# Altium schematic symbol library Custom1.SchLib: 476 symbols (part 5 of 16)
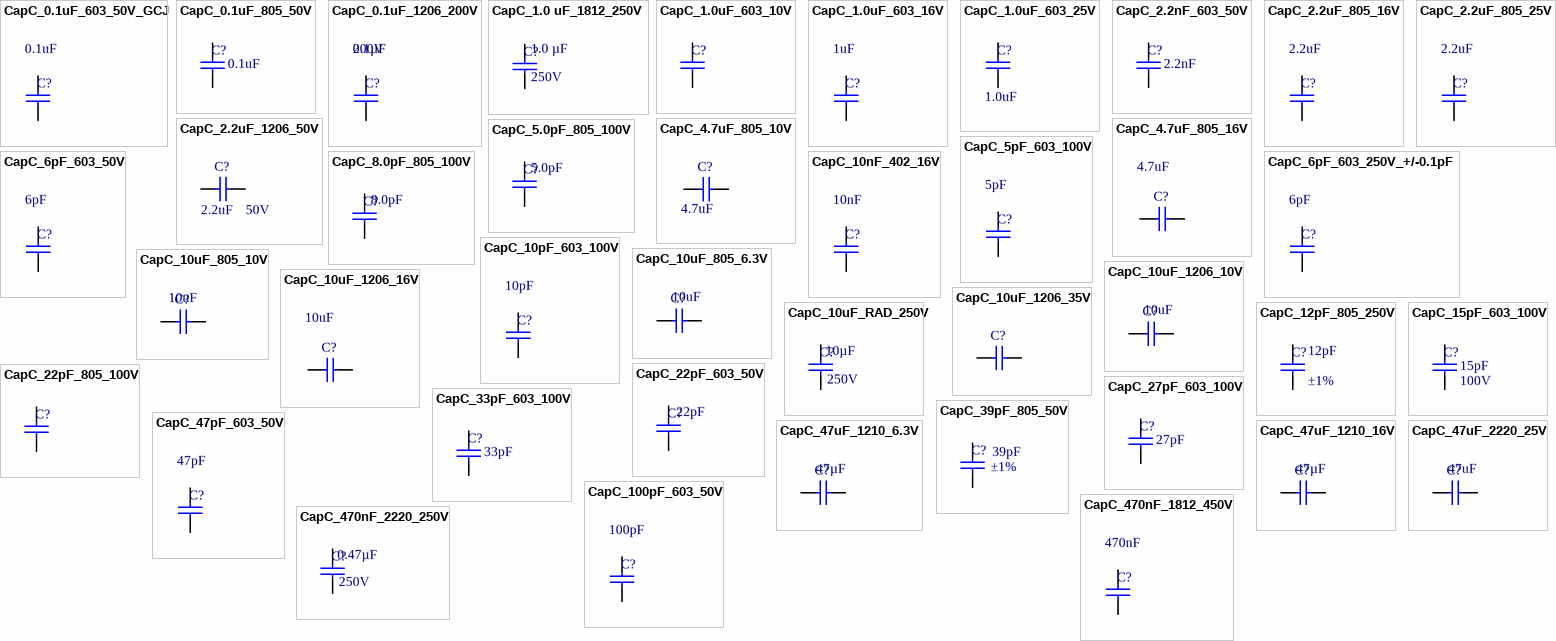
[diagram p29: symbols CapC_0.1uF_603_50V_GCJ to CapC_470nF_2220_250V]

## CapC_22pF_805_100V
designator C?, comment 22pF_805_100V  (value not drawn)
Capacitor
simulation model CAP (Capacitor)
signal-integrity model Cap
footprint CAPC_0805 (Chip Capacitor, Body 2.0x1.3mm, IPC Medium Density)
pins: 1, 2

## CapC_27pF_603_100V
designator C?, comment value 27pF  (hidden comment: 27pF_603_100V)
Capacitor; Manufacturer: AVX Corporation; Manufacturer Part Number: 06031A270FAT2A; Voltage - Rated: 100V; Tolerance: ±1%; Temperature Coefficient: C0G, NP0; Supplier 1: Digi-Key; Supplier Part Number 1: 478-3681-1-ND; RoHS: RoHS Compliant; Category: Capacitors; Stock: 13409; Pricing: 1=0.43, 10=0.378, 100=0.189, 250=0.1512, 500=0.1377, 1000=0.1242 (USD); Packaging: Cut Tape (CT); Capacitance: 27pF; Mounting Type: Surface Mount, MLCC; Operating Temperature: -55°C ~ 125°C; Applications: General Purpose; Ratings: -; Package / Case: 0603 (1608 Metric); Size / Dimension: 0.063" L x 0.032" W (1.60mm x 0.81mm); Height - Seated (Max): -; Thickness (Max): 0.035" (0.90mm); Lead Spacing: -; Features: -; Lead Style: -; ComponentLink1URL: http://www.avx.com/docs/Catalogs/ccog.pdf; ComponentLink1Description: http://www.avx.com/docs/Catalogs/ccog.pdf
simulation model CAP (Capacitor)
signal-integrity model Cap
footprint CAPC_0603 (Chip Capacitor, Body 1.6x0.8mm, IPC Medium Density)
pins: 1, 2

## CapC_33pF_603_100V
designator C?, comment value 33pF  (hidden comment: 33pF_603_100V)
Capacitor; Manufacturer: AVX Corporation; Manufacturer Part Number: 06031A330FAT2A; Tolerance: ±1%; Temperature Coefficient: C0G, NP0; Voltage - Rated: 100V; Supplier 1: Digi-Key; Supplier Part Number 1: 478-3688-1-ND; RoHS: RoHS Compliant; Category: Capacitors; Stock: 223846; Pricing: 1=0.43, 10=0.378, 100=0.189, 250=0.1512, 500=0.1377, 1000=0.1242 (USD); Packaging: Cut Tape (CT); Capacitance: 33pF; Mounting Type: Surface Mount, MLCC; Operating Temperature: -55°C ~ 125°C; Applications: General Purpose; Ratings: -; Package / Case: 0603 (1608 Metric); Size / Dimension: 0.063" L x 0.032" W (1.60mm x 0.81mm); Height - Seated (Max): -; Thickness (Max): 0.035" (0.90mm); Lead Spacing: -; Features: -; Lead Style: -; ComponentLink1URL: http://www.avx.com/docs/Catalogs/ccog.pdf; ComponentLink1Description: http://www.avx.com/docs/Catalogs/ccog.pdf
simulation model CAP (Capacitor)
signal-integrity model Cap
footprint CAPC_0603 (Chip Capacitor, Body 1.6x0.8mm, IPC Medium Density)
pins: 1, 2

## CapC_39pF_805_50V
designator C?, comment Tolerance: ±1%  Capacitance: 39pF  (hidden comment: 39pF_805_50V)
Capacitor; Manufacturer: American Technical Ceramics; Manufacturer Part Number: 600F390FT; Voltage - Rated: 250V; Temperature Coefficient: C0G, NP0; Supplier 1: Digi-Key; Supplier Part Number 1: 1284-1052-1-ND; RoHS: RoHS Compliant; Category: Capacitors; Stock: 7687; Pricing: 1=2.14, 10=1.775, 50=1.6444, 100=1.4877, 250=1.22672, 500=1.0962, 1000=0.9918 (USD); Packaging: Cut Tape (CT); Mounting Type: Surface Mount, MLCC; Operating Temperature: -55°C ~ 125°C; Applications: RF, Microwave, High Frequency; Ratings: -; Package / Case: 0805 (2012 Metric); Size / Dimension: 0.079" L x 0.049" W (2.00mm x 1.25mm); Height - Seated (Max): -; Thickness (Max): 0.051" (1.30mm); Lead Spacing: -; Features: High Q, Low Loss, Ultra Low ESR, High Voltage; Lead Style: -; ComponentLink1URL: http://www.atceramics.com/UserFiles/600f.pdf; ComponentLink1Description: http://www.atceramics.com/UserFiles/600f.pdf
simulation model CAP (Capacitor)
signal-integrity model Cap
footprint CAPC_0805 (Chip Capacitor, Body 2.0x1.3mm, IPC Medium Density)
pins: 1, 2

## CapC_47pF_603_50V
designator C?, comment Capacitance: 47pF  (hidden comment: 47pF_603_50V)
47pF ±5% 50V Ceramic Capacitor C0G, NP0 0603 (1608 Metric); Manufacturer: TDK; Manufacturer Part Number: CGA3E2C0G1H470J080AA; ComponentLink1Description: Supplier Link; ComponentLink1URL: https://www.digikey.com/products/en?keywords=445-5636-1-ND; ComponentLink2Description: Datasheet; ComponentLink2URL: https://product.tdk.com/info/en/documents/chara_sheet/CGA3E2C0G1H470J080AA.pdf; ComponentLink3Description: Catalog; ComponentLink3URL: https://product.tdk.com/info/en/catalog/datasheets/mlcc_automotive_general_en.pdf; Supplier 1: Digi-Key; Stock 1: 18370; Pricing 1: 1=0.19000, 10=0.13400, 100=0.06300, 500=0.04420, 1000=0.03659 (USD); RoHS: Yes; Mount: Surface Mount; Case/Package: 0603; Weight: 7.1E-05oz; Case Code (Imperial): 0603; Case Code (Metric): 1608; Min Operating Temperature: -55°C; Max Operating Temperature: 125°C; Tolerance: 5%; Packaging: Tape and Reel; Voltage Rating: 50V; Voltage Rating (DC): 50V; Package Quantity: 1; Dielectric: C0G; Termination: SMD/SMT; Composition: Ceramic; Length: 1.6mm; Height: 0.8mm; Width: 0.8mm; Thickness: 0.035inch; Depth: 0.8mm; Ratings: AEC-Q200; REACH SVHC: No SVHC; Lead Free: Lead Free; Supplier Part Number 1: 445-5636-1-ND
simulation model CAP (Capacitor)
signal-integrity model Cap
footprint CAPC_0603 (Chip Capacitor, Body 1.6x0.8mm, IPC Medium Density)
pins: 1, 2

## CapC_47uF_1210_6.3V
designator C?, comment Capacitance: 47µF  (hidden comment: 47uF_1210_6.3V)
Capacitor; Manufacturer: Murata Electronics North America; Manufacturer Part Number: GCJ32ER70J476KE01L; Tolerance: ±10%; Voltage - Rated: 6.3V; Temperature Coefficient: X7R; Supplier 1: Digi-Key; RoHS: RoHS Compliant; Category: Capacitors; Stock 1: 69; Pricing 1: 1=1.4, 10=1.172, 50=0.9474, 100=0.7479, 250=0.62324, 500=0.56092 (USD); Packaging: Cut Tape (CT); Mounting Type: Surface Mount, MLCC; Operating Temperature: -55°C ~ 125°C; Applications: Automotive, Boardflex Sensitive; Ratings: AEC-Q200; Package / Case: 1210 (3225 Metric); Size / Dimension: 0.126" L x 0.098" W (3.20mm x 2.50mm); Height - Seated (Max): -; Thickness (Max): 0.110" (2.80mm); Lead Spacing: -; Features: Soft Termination; Lead Style: -; ComponentLink1URL: http://www.murata.com/products/catalog/pdf/c03e.pdf; ComponentLink1Description: http://www.murata.com/products/catalog/pdf/c03e.pdf; Supplier Part Number 1: 490-10559-1-ND
simulation model CAP (Capacitor)
signal-integrity model Cap
footprint C1210 (Chip Capacitor; Body 3.2 x 2.5 mm (LxW typ))
pins: 1, 2

## CapC_47uF_1210_16V
designator C?, comment Capacitance: 47µF  (hidden comment: 47uF_1210_16V)
Capacitor; Manufacturer: Murata Electronics North America; Manufacturer Part Number: GRT32EC81C476KE13L; Tolerance: ±10%; Voltage - Rated: 16V; Temperature Coefficient: X6S; Supplier 1: Digi-Key; RoHS: RoHS Compliant; Category: Capacitors; Stock 1: 980; Pricing 1: 1=0.88, 10=0.838, 50=0.5, 100=0.4063, 250=0.33752, 500=0.30626 (USD); Packaging: Cut Tape (CT); Mounting Type: Surface Mount, MLCC; Operating Temperature: -55°C ~ 105°C; Applications: Automotive; Ratings: AEC-Q200; Package / Case: 1210 (3225 Metric); Size / Dimension: 0.126" L x 0.098" W (3.20mm x 2.50mm); Height - Seated (Max): -; Thickness (Max): 0.106" (2.70mm); Lead Spacing: -; Features: -; Lead Style: -; ComponentLink1URL: http://search.murata.co.jp/Ceramy/image/img/A01X/G101/ENG/GRT32EC81C476KE13-01.pdf; ComponentLink1Description: http://search.murata.co.jp/Ceramy/image/img/A01X/G101/ENG/GRT32EC81C476KE13-01.pdf; Supplier Part Number 1: 490-12494-1-ND
simulation model CAP (Capacitor)
signal-integrity model Cap
footprint C1210 (Chip Capacitor; Body 3.2 x 2.5 mm (LxW typ))
pins: 1, 2

## CapC_47uF_2220_25V
designator C?, comment value 47uF  (hidden comment: 47uF_2220_25V)
Capacitor; Manufacturer: Kemet; Manufacturer Part Number: C2220C476M3R2CAUTO7186; Capacitance: 47µF; Tolerance: ±20%; Voltage - Rated: 25V; Temperature Coefficient: X7R; Supplier 1: Digi-Key; RoHS: RoHS Compliant; Category: Capacitors; Stock 1: 278; Pricing 1: 1=5.71, 10=5.362, 25=5.0164, 50=4.93, 100=4.757 (USD); Packaging: Cut Tape (CT); Mounting Type: Surface Mount, MLCC; Operating Temperature: -55°C ~ 125°C; Applications: Automotive, Bypass, Decoupling, Boardflex Sensitive; Ratings: AEC-Q200; Package / Case: Stacked SMD, 2 J-Lead; Size / Dimension: 0.236" L x 0.197" W (6.00mm x 5.00mm); Height - Seated (Max): -; Thickness (Max): 0.217" (5.50mm); Lead Spacing: -; Features: Low ESL (Stacked); Lead Style: -; ComponentLink1URL: http://www.kemet.com/Lists/ProductCatalog/Attachments/259/KEM_C1021_X7R_KPS_AUTO_SMD.pdf; ComponentLink1Description: http://www.kemet.com/Lists/ProductCatalog/Attachments/259/KEM_C1021_X7R_KPS_AUTO_SMD.pdf; Supplier Part Number 1: 399-5801-1-ND
simulation model CAP (Capacitor)
signal-integrity model Cap
footprint C2220-J-LEAD (Stacked Chip Capacitor; Body 6.0 x 5.0 mm (LxW typ))
pins: 1, 2

## CapC_100pF_603_50V
designator C?, comment Capacitance: 100pF  (hidden comment: 100pF_603_50V)
Capacitor; Manufacturer: TDK Corporation; Manufacturer Part Number: CGJ3E2C0G1H101J080AA; Tolerance: ±5%; Voltage - Rated: 50V; Temperature Coefficient: C0G, NP0; Ratings: COTS; Supplier 1: Digi-Key; RoHS: RoHS Compliant; Category: Capacitors; Stock 1: 3733; Pricing 1: 1=0.24, 10=0.204, 100=0.102, 250=0.07652, 500=0.06758, 1000=0.05993 (USD); Packaging: Cut Tape (CT); Mounting Type: Surface Mount, MLCC; Operating Temperature: -55°C ~ 125°C; Applications: High Reliability; Package / Case: 0603 (1608 Metric); Size / Dimension: 0.063" L x 0.031" W (1.60mm x 0.80mm); Height - Seated (Max): -; Thickness (Max): 0.031" (0.80mm); Lead Spacing: -; Features: -; Lead Style: -; ComponentLink1URL: http://product.tdk.com/capacitor/mlcc/en/documents/mlcc_highreliability_general_en.pdf; ComponentLink1Description: http://product.tdk.com/capacitor/mlcc/en/documents/mlcc_highreliability_general_en.pdf; Supplier Part Number 1: 445-10545-1-ND
simulation model CAP (Capacitor)
signal-integrity model Cap
footprint CAPC_0603 (Chip Capacitor, Body 1.6x0.8mm, IPC Medium Density)
pins: 1, 2

## CapC_470nF_1812_450V
designator C?, comment Capacitance: 470nF  (hidden comment: 470nF_1812_450V)
Capacitor; Manufacturer: TDK; Manufacturer Part Number: CGA8N4X7T2W474M230KE; Tolerance: 20%; Voltage Rating: 450V; Dielectric: X7T; ComponentLink1Description: Datasheet; ComponentLink1URL: https://product.tdk.com/info/en/catalog/datasheets/mlcc_automotive_soft_en.pdf; ComponentLink2Description: Supplier Link; ComponentLink2URL: https://www.digikey.com/product-detail/en/tdk-corporation/CGA8N4X7T2W474M230KE/445-7993-1-ND/2782561; Supplier 1: Digi-Key; Stock 1: 3188; Pricing 1: 1 = 1.72000, 10 = 1.39200, 100 = 1.06260 (USD); RoHS: Yes; Mount: Surface Mount; Case/Package: 1812; Weight: 0.000952oz; Case Code (Imperial): 1812; Case Code (Metric): 4532; Min Operating Temperature: -55°C; Max Operating Temperature: 125°C; Packaging: Tape and Reel; Termination: SMD/SMT; Voltage Rating (DC): 450V; Package Quantity: 1; Features: Soft Termination; Length: 4.5mm; Height: 2.3mm; Width: 3.2mm; Thickness: 0.091inch; Depth: 3.2mm; Ratings: AEC-Q200; REACH SVHC: No SVHC; ComponentLink3URL: http://www.mouser.com/ds/2/400/lcc_commercial_soft_en-775842.pdf?src-supplier=Mouser; ComponentLink3Description: http://www.mouser.com/ds/2/400/lcc_commercial_soft_en-775842.pdf?src-supplier=Mouser; ComponentLink4URL: http://components.arrow.com/part/dataview/0323_06888689?src-supplier=Arrow+Europe; ComponentLink4Description: http://components.arrow.com/part/dataview/0323_06888689?src-supplier=Arrow+Europe; ComponentLink5URL: http://www.farnell.com/datasheets/2016103.pdf?src-supplier=Farnell; ComponentLink5Description: http://www.farnell.com/datasheets/2016103.pdf?src-supplier=Farnell; ComponentLink6URL: http://components.arrow.com/part/dataview/57435482S457154N1165?src-supplier=Arrow; ComponentLink6Description: http://components.arrow.com/part/dataview/57435482S457154N1165?src-supplier=Arrow; ComponentLink7URL: http://www.farnell.com/datasheets/1839935.pdf?src-supplier=Element14; ComponentLink7Description: http://www.farnell.com/datasheets/1839935.pdf?src-supplier=Element14; ComponentLink8URL: https://product.tdk.com/info/en/documents/chara_sheet/CGA8N4X7T2W474M230KE.pdf?src-supplier=Digi-Key; ComponentLink8Description: https://product.tdk.com/info/en/documents/chara_sheet/CGA8N4X7T2W474M230KE.pdf?src-supplier=Digi-Key; ComponentLink9URL: https://product.tdk.com/info/en/catalog/datasheets/mlcc_automotive_soft_en.pdf?src-supplier=Digi-Key; ComponentLink9Description: https://product.tdk.com/info/en/catalog/datasheets/mlcc_automotive_soft_en.pdf?src-supplier=Digi-Key; Supplier Part Number 1: 445-7993-1-ND
simulation model CAP (Capacitor)
signal-integrity model Cap
footprint 1812 (Chip Capacitor; Body 4.5 x 3.2 mm (LxW typ))
pins: 1, 2

## CapC_470nF_2220_250V
designator C?, comment Capacitance: 0.47µF  Voltage - Rated: 250V  (hidden comment: 470nF_2220_250V)
Capacitor; Manufacturer: Murata Electronics North America; Manufacturer Part Number: GCJ55DR72E474KXJ1L; Tolerance: ±10%; Temperature Coefficient: X7R; Supplier 1: Digi-Key; RoHS: RoHS Compliant; Category: Capacitors; Stock 1: 1591; Pricing 1: 1=2.23, 10=1.825, 50=1.6028, 100=1.2911, 250=1.06848, 500=0.95718 (USD); Packaging: Cut Tape (CT); Mounting Type: Surface Mount, MLCC; Operating Temperature: -55°C ~ 125°C; Applications: Automotive, Boardflex Sensitive; Ratings: AEC-Q200; Package / Case: 2220 (5750 Metric); Size / Dimension: 0.224" L x 0.197" W (5.70mm x 5.00mm); Height - Seated (Max): -; Thickness (Max): 0.079" (2.00mm); Lead Spacing: -; Features: Soft Termination; Lead Style: -; ComponentLink1URL: http://www.murata.com/products/catalog/pdf/c03e.pdf; ComponentLink1Description: http://www.murata.com/products/catalog/pdf/c03e.pdf; Supplier Part Number 1: 490-5605-1-ND
simulation model CAP (Capacitor)
signal-integrity model Cap
footprint 2220 (Chip Capacitor; Body 5.7 x 5.0 mm (LxW typ))
pins: 1, 2

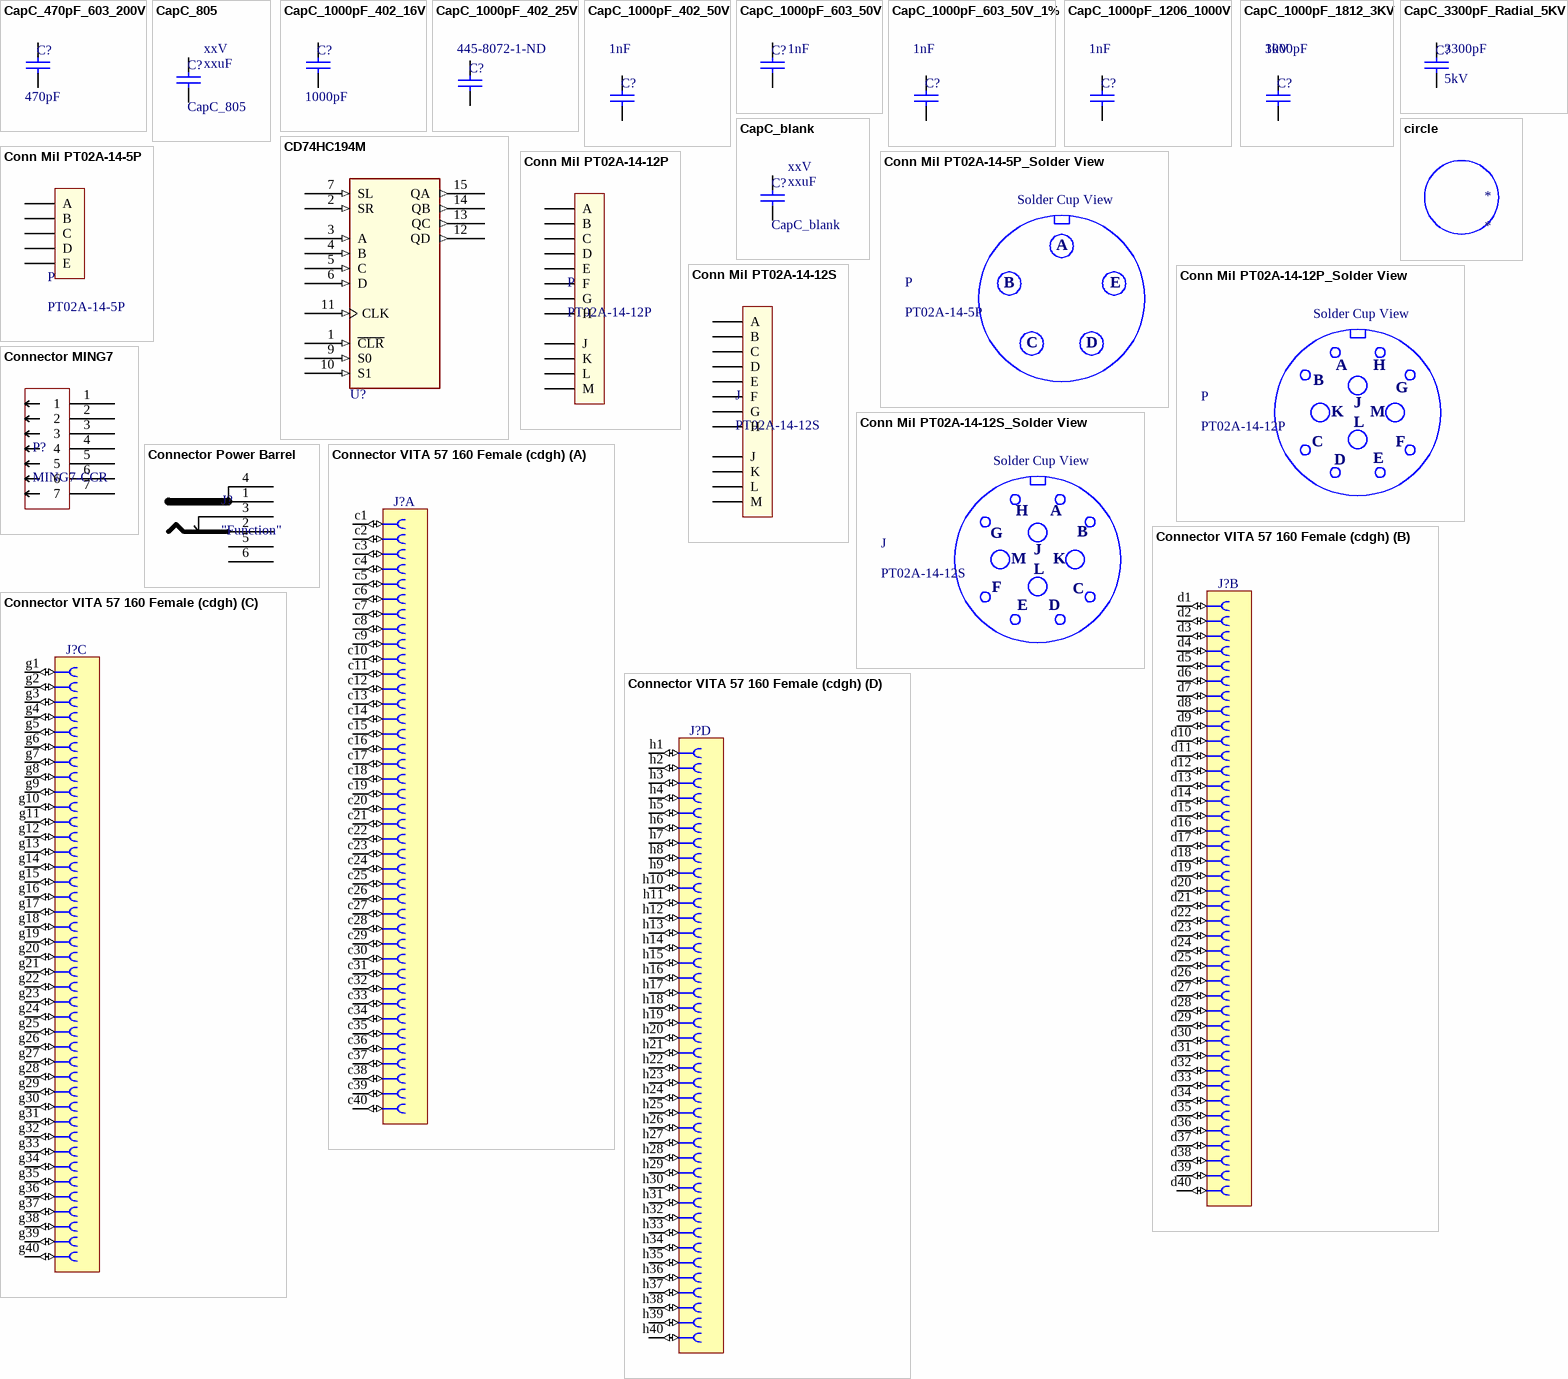
[diagram p12: symbols CapC_470pF_603_200V to Connector VITA 57 160 Female (cdgh)]

## CapC_470pF_603_200V
designator C?, comment Capacitance: 470pF  (hidden comment: 470pF_603_200V)
CAP CER 470PF 200V C0G 0603; Manufacturer: Yageo; Manufacturer Part Number: AC0603JRNPOYBN471; ComponentLink1Description: Datasheet; ComponentLink1URL: http://www.yageo.com/NewPortal/_en/search/productDocs.jsp?YageoPartNumber=AC0603JRNPOYBN471; ComponentLink2Description: Supplier Link; ComponentLink2URL: https://www.digikey.com/products/en?keywords=311-3098-1-ND; Supplier 1: Digi-Key; Stock 1: 19295; Pricing 1: 1 = 0.21000, 10 = 0.14600, 100 = 0.07400, 500 = 0.05062, 1000 = 0.04477 (USD); RoHS: No; ComponentLink3URL: http://www.yageo.com/NewPortal/_en/search/productDocs.jsp?YageoPartNumber=AC0603JRNPOYBN471&src-supplier=Digi-Key; ComponentLink3Description: http://www.yageo.com/NewPortal/_en/search/productDocs.jsp?YageoPartNumber=AC0603JRNPOYBN471&src-supplier=Digi-Key; Supplier Part Number 1: 311-3098-1-ND
simulation model CAP (Capacitor)
signal-integrity model Cap
footprint CAPC_0603 (Chip Capacitor, Body 1.6x0.8mm, IPC Medium Density)
pins: 1, 2

## CapC_805
designator C?  value xxuF  Voltage - Rated: xxV
Capacitor
footprint RAD-0.3 (Radial Cap, Thru-Hole; 2 Leads; 0.3 in Pin Spacing)
simulation model CAP (Capacitor)
signal-integrity model Cap
footprint 0603 (SMT; Body 1.6 x 0.8 mm (LxW typ))
footprint 0805 (SMT; Body 2.0 x 1.2 mm (LxW typ))
footprint 1206 (Chip Capacitor; Body 3.2 x 1.6 mm (LxW typ))
footprint 0402 (Chip Capacitor; Body 1.0 x 0.5 mm (LxW typ))
footprint CAPC_0805 (Chip Capacitor, Body 2.0x1.3mm, IPC Medium Density)
pins: 1, 2

## CapC_1000pF_402_16V
designator C?, comment Capacitance: 1000pF  (hidden comment: 1000pF_402_16V)
CAP CER 1000PF 16V X7R 0402; Manufacturer: Yageo; Manufacturer Part Number: AC0402KRX7R7BB102; ComponentLink1URL: http://www.yageo.com/documents/recent/UPY-AC_NP0X7R_16V-to-630V_12.pdf; ComponentLink1Description: Datasheet; Supplier 1: Digi-Key; Stock 1: 28640; Pricing 1: 1=0.10000, 10=0.05700, 100=0.02560, 500=0.01826, 1000=0.01435, 2500=0.01305, 5000=0.01200 (USD); RoHS: No; Supplier Part Number 1: 311-3058-1-ND; Parameter 1: *
simulation model CAP (Capacitor)
signal-integrity model Cap
footprint CAPC_0402 (Chip Capacitor, Body 1.0x0.5mm, IPC Medium Density)
pins: 1, 2

## CapC_1000pF_402_25V
designator C?, comment Supplier Part Number 1: 445-8072-1-ND  (hidden comment: 1000pF_402_25V)
Capacitor; Manufacturer: TDK; Manufacturer Part Number: CGJ2B2X7R1E102K050BA; Tolerance: 10%; Capacitance: 1nF; Voltage Rating (DC): 25V; Dielectric: X7R; Ratings: COTS; Supplier 1: Digi-Key; Stock 1: 218; Pricing 1: 1 = 0.17000, 10 = 0.12300, 100 = 0.05760, 500 = 0.04040, 1000 = 0.03345, 2500 = 0.03113, 5000 = 0.02848 (USD); RoHS: Yes; Mount: Surface Mount; Case/Package: 0402; Weight: 2.3E-05oz; Case Code (Imperial): 0402; Case Code (Metric): 1005; Min Operating Temperature: -55°C; Max Operating Temperature: 125°C; Packaging: Tape and Reel; Package Quantity: 1; Voltage Rating: 25V; Termination: SMD/SMT; Composition: Ceramic; Length: 1mm; Height: 0.5mm; Width: 0.5mm; Thickness: 0.022inch; Depth: 0.5mm; Radiation Hardening: No; ComponentLink1URL: https://datasheet.ciiva.com/15192/getdatasheetpartid-710822-15192447.pdf?src-supplier=Verical; ComponentLink1Description: https://datasheet.ciiva.com/15192/getdatasheetpartid-710822-15192447.pdf?src-supplier=Verical; ComponentLink2URL: https://datasheet.ciiva.com/24218/mlcc-highreliability-general-en-520187-24218552.pdf?src-supplier=Mouser; ComponentLink2Description: https://datasheet.ciiva.com/24218/mlcc-highreliability-general-en-520187-24218552.pdf?src-supplier=Mouser
simulation model CAP (Capacitor)
signal-integrity model Cap
footprint CAPC_0402 (Chip Capacitor, Body 1.0x0.5mm, IPC Medium Density)
pins: 1, 2

## CapC_1000pF_402_50V
designator C?, comment Capacitance: 1nF  (hidden comment: 1000pF_402_50V)
Capacitor; Manufacturer: KEMET; Manufacturer Part Number: C0402C102K5RACTU; Dielectric Material: Ceramic; Tolerance: 10%; Voltage Rating (DC): 50V; Dielectric: X7R; Dissipation Factor: 2.5%; Supplier 1: Digi-Key; Stock 1: 279243; Pricing 1: 1 = 0.10000, 10 = 0.02400, 100 = 0.01080, 500 = 0.00772, 1000 = 0.00607, 2500 = 0.00552, 5000 = 0.00508 (USD); RoHS: Yes; Mount: Surface Mount; Case/Package: 0402; Number of Pins: 2; Case Code (Metric): 1005; Case Code (Imperial): 0402; Min Operating Temperature: -55°C; Max Operating Temperature: 125°C; Packaging: Tape and Reel; Package Quantity: 1; Voltage Rating: 50V; Termination: SMD/SMT; Voltage: 50V; Length: 1mm; Height: 0.5mm; Width: 0.5mm; Depth: 0.5mm; Thickness: 0.022inch; Lead Pitch: 0.3mm; Radiation Hardening: No; REACH SVHC: No SVHC; Supplier Part Number 1: 399-1032-1-ND; ComponentLink1Description: Supplier Link; ComponentLink1URL: https://www.digikey.com/products/en?keywords=399-1032-1-ND; ComponentLink2Description: Datasheet; ComponentLink2URL: https://content.kemet.com/datasheets/KEM_C1002_X7R_SMD.pdf
simulation model CAP (Capacitor)
signal-integrity model Cap
footprint CAPC_0402 (Chip Capacitor, Body 1.0x0.5mm, IPC Medium Density)
pins: 1, 2

## CapC_1000pF_603_50V
designator C?, comment Capacitance: 1nF  (hidden comment: 1000pF_603_50V)
Capacitor; Manufacturer: Knowles Syfer; Manufacturer Part Number: 0603Y0500102KXT; Tolerance: 10%; Voltage Rating: 50V; Dielectric: X7R; Dissipation Factor: 2.5%; Supplier 1: Digi-Key; Stock 1: 7150; Pricing 1: 1 = 0.540000, 10 = 0.379000, 100 = 0.249600, 500 = 0.184900, 1000 = 0.157160 (USD); RoHS: Yes; Case/Package: 0603; Case Code (Imperial): 0603; Case Code (Metric): 1608; Min Operating Temperature: -55°C; Max Operating Temperature: 125°C; Packaging: Tape and Reel; Package Quantity: 4000; Voltage Rating (DC): 50V; Termination: SMD/SMT; Composition: Ceramic; Length: 1.6mm; Height: 0.8mm; Width: 0.8mm; Depth: 0.8mm; Supplier Part Number 1: 1608-1367-1-ND; ComponentLink1Description: Datasheet; ComponentLink1URL: https://www.knowlescapacitors.com/getattachment/2dbfc8bc-e2b3-4b4d-afb1-43b011b9ebe0/High-Std-Voltage.aspx; ComponentLink2Description: Supplier Link; ComponentLink2URL: https://www.digikey.com/product-detail/en/knowles-syfer/0603Y0500102KXT/1608-1367-1-ND/7644469
simulation model CAP (Capacitor)
signal-integrity model Cap
footprint CAPC_0603 (Chip Capacitor, Body 1.6x0.8mm, IPC Medium Density)
pins: 1, 2

## CapC_1000pF_603_50V_1%
designator C?, comment Capacitance: 1nF  (hidden comment: 1000pF_603_50V)
Capacitor; Manufacturer: Murata; Manufacturer Part Number: GRM1885C1H102FA01D; Material: Ceramic; Voltage Rating: 50V; Tolerance: 1%; Dielectric: C0G; Temperature Coefficient: 30ppm/°C; ComponentLink1Description: Datasheet; ComponentLink1URL: https://www.murata.com/~/media/webrenewal/support/library/catalog/products/capacitor/mlcc/c02e.ashx?la=en-us; ComponentLink2Description: Supplier Link; ComponentLink2URL: https://www.digikey.com/products/en?keywords=490-6376-1-ND; Supplier 1: Digi-Key; Stock 1: 143198; Pricing 1: 1=0.19000, 10=0.13300, 100=0.06260, 500=0.04386, 1000=0.03631 (USD); RoHS: Yes; Mount: Surface Mount; Case/Package: 0603; Number of Pins: 2; Case Code (Metric): 1608; Case Code (Imperial): 0603; Min Operating Temperature: -55°C; Max Operating Temperature: 125°C; Packaging: Tape and Reel; Package Quantity: 4000; Termination: SMD/SMT; Voltage: 50V; Voltage Rating (DC): 50V; Length: 1.6mm; Height: 0.8mm; Width: 0.031inch; Thickness: 0.035inch; Depth: 0.8mm; Radiation Hardening: No; REACH SVHC: No SVHC; Lead Free: Lead Free; ComponentLink3URL: https://datasheet.ciiva.com/6072/1747444-6072454.pdf?src-supplier=Farnell; ComponentLink3Description: https://datasheet.ciiva.com/6072/1747444-6072454.pdf?src-supplier=Farnell; ComponentLink4URL: https://datasheet.ciiva.com/7828/1747444-7828892.pdf?src-supplier=Element14; ComponentLink4Description: https://datasheet.ciiva.com/7828/1747444-7828892.pdf?src-supplier=Element14; ComponentLink5URL: https://datasheet.ciiva.com/11621/c02e-11621692.pdf?src-supplier=Avnet; ComponentLink5Description: https://datasheet.ciiva.com/11621/c02e-11621692.pdf?src-supplier=Avnet; ComponentLink6URL: https://datasheet.ciiva.com/16624/c02e-16624140.pdf?src-supplier=Avnet+Europe; ComponentLink6Description: https://datasheet.ciiva.com/16624/c02e-16624140.pdf?src-supplier=Avnet+Europe; ComponentLink7URL: https://datasheet.ciiva.com/22698/1747444-22698428.pdf?src-supplier=Element14; ComponentLink7Description: https://datasheet.ciiva.com/22698/1747444-22698428.pdf?src-supplier=Element14; ComponentLink8URL: https://datasheet.ciiva.com/5416/c02e-5416637.pdf?src-supplier=Mouser; ComponentLink8Description: https://datasheet.ciiva.com/5416/c02e-5416637.pdf?src-supplier=Mouser; ComponentLink9URL: https://datasheet.ciiva.com/6270/partnumbering-e-01-6270573.pdf?src-supplier=Digi-Key; ComponentLink9Description: https://datasheet.ciiva.com/6270/partnumbering-e-01-6270573.pdf?src-supplier=Digi-Key; ComponentLink10URL: https://datasheet.ciiva.com/6270/partnumbering-e-01-6270574.pdf?src-supplier=Digi-Key; ComponentLink10Description: https://datasheet.ciiva.com/6270/partnumbering-e-01-6270574.pdf?src-supplier=Digi-Key; ComponentLink11URL: https://datasheet.ciiva.com/6270/partnumbering-e-01-6270575.pdf?src-supplier=Digi-Key; ComponentLink11Description: https://datasheet.ciiva.com/6270/partnumbering-e-01-6270575.pdf?src-supplier=Digi-Key; ComponentLink12URL: https://datasheet.ciiva.com/16426/l0005e-16426367.pdf?src-supplier=Future+Electronics; ComponentLink12Description: https://datasheet.ciiva.com/16426/l0005e-16426367.pdf?src-supplier=Future+Electronics; Supplier Part Number 1: 490-6376-1-ND
simulation model CAP (Capacitor)
signal-integrity model Cap
footprint CAPC_0603 (Chip Capacitor, Body 1.6x0.8mm, IPC Medium Density)
pins: 1, 2

## CapC_1000pF_1206_1000V
designator C?, comment Capacitance: 1nF  (hidden comment: 1000pF_1206_1000V)
Capacitor; Manufacturer: KEMET; Manufacturer Part Number: C1206X102KDRACAUTO; Dielectric Material: Ceramic; Voltage Rating (DC): 1kV; Dielectric: X7R; Tolerance: 10%; ComponentLink1Description: Supplier Link; ComponentLink1URL: https://www.digikey.com/products/en?keywords=399-16729-1-ND; ComponentLink2Description: Data Sheet; ComponentLink2URL: https://api.kemet.com/component-edge/download/datasheet/C1206X102KDRACAUTO.pdf; Supplier 1: Digi-Key; Stock 1: 2753; Pricing 1: 1 = 0.85000, 10 = 0.62600, 100 = 0.42910, 500 = 0.33972, 1000 = 0.28608 (USD); RoHS: No; Case/Package: 1206; ComponentLink3URL: https://api.kemet.com/component-edge/download/datasheet/C1206X102KDRACAUTO.pdf?src-supplier=Digi-Key; ComponentLink3Description: https://api.kemet.com/component-edge/download/datasheet/C1206X102KDRACAUTO.pdf?src-supplier=Digi-Key; ComponentLink4URL: https://api.kemet.com/component-edge/download/specsheet/C1206X102KDRACAUTO.pdf?src-supplier=Digi-Key; ComponentLink4Description: https://api.kemet.com/component-edge/download/specsheet/C1206X102KDRACAUTO.pdf?src-supplier=Digi-Key; Supplier Part Number 1: 399-16729-1-ND
simulation model CAP (Capacitor)
signal-integrity model Cap
footprint CAPC_1206 (Chip Capacitor, Body 3.2x1.6mm, IPC Medium Density)
pins: 1, 2

## CapC_1000pF_1812_3KV
designator C?, comment Voltage Rating: 3kV  Capacitance: 1000pF  (hidden comment: 1000pF_1812_3KV)
Capacitor; Manufacturer: Kyocera AVX; Manufacturer Part Number: 1812HC102KAZ1A; Tolerance: 10%; Dielectric: X7R; ComponentLink1Description: Datasheet; ComponentLink1URL: http://datasheets.avx.com/HV-FlexitermMLCC.pdf; Supplier 1: Digi-Key; Stock 1: 10398; Pricing 1: 1 = 1.61000, 10 = 1.27000, 100 = 0.95220, 500 = 0.71944 (USD); RoHS: Yes; Mount: Surface Mount; Case/Package: 1812; Number of Pins: 2; Case Code (Metric): 4532; Case Code (Imperial): 1812; Min Operating Temperature: -55°C; Max Operating Temperature: 125°C; Package Quantity: 1000; Packaging: Tape and Reel; Voltage Rating (DC): 3kV; Termination: SMD/SMT; Features: Soft Termination; Length: 4.5mm; Height: 2.54mm; Width: 0.126inch; Thickness: 0.1inch; Depth: 3.2mm; REACH SVHC: No SVHC; Lead Free: Contains Lead; Supplier Part Number 1: 478-4607-1-ND
simulation model CAP (Capacitor)
signal-integrity model Cap
footprint 1812 (Chip Capacitor; Body 4.5 x 3.2 mm (LxW typ))
pins: 1, 2

## CapC_3300pF_Radial_5KV
designator C?, comment value 3300pF  Voltage - Rated: 5kV  (hidden comment: 3300pF_Radial_5000V)
Capacitor HV; Manufacturer: AVX Corporation; Manufacturer Part Number: SV07KC332KAR; Tolerance: ±10%; Temperature Coefficient: X7R; Supplier 1: Digi-Key; RoHS: RoHS Compliant; Category: Capacitors; Stock 1: 22; Pricing 1: 1=15.08, 10=14.326, 100=11.31, 250=10.556, 500=10.0282, 1000=9.425, 5000=9.048 (USD); Packaging: Bulk; Capacitance: 3300pF; Mounting Type: Through Hole; Operating Temperature: -55°C ~ 125°C; Applications: General Purpose; Ratings: -; Package / Case: Radial; Size / Dimension: 0.571" L x 0.200" W (14.50mm x 5.08mm); Height - Seated (Max): 0.500" (12.70mm); Thickness (Max): -; Lead Spacing: 0.476" (12.10mm); Features: High Voltage; Lead Style: Straight; ComponentLink1URL: http://datasheets.avx.com/AVX-SV_Style.pdf; ComponentLink1Description: http://datasheets.avx.com/AVX-SV_Style.pdf; Supplier Part Number 1: 478-6821-ND
simulation model CAP (Capacitor)
signal-integrity model Cap
footprint Cap Radial 475
pins: 1, 2

## CapC_blank
designator C?  value xxuF  Voltage - Rated: xxV
Capacitor
footprint RAD-0.3 (Radial Cap, Thru-Hole; 2 Leads; 0.3 in Pin Spacing)
simulation model CAP (Capacitor)
signal-integrity model Cap
footprint 0603 (SMT; Body 1.6 x 0.8 mm (LxW typ))
footprint 0805 (SMT; Body 2.0 x 1.2 mm (LxW typ))
footprint 1206 (Chip Capacitor; Body 3.2 x 1.6 mm (LxW typ))
footprint 0402 (Chip Capacitor; Body 1.0 x 0.5 mm (LxW typ))
pins: 1, 2

## CD74HC194M
designator U?
IC BI-DIR SHIFT REGISTER 16-SOIC
pins: 1 ~{CLR} (in), 2 SR (in), 3 A (in), 4 B (in), 5 C (in), 6 D (in), 7 SL (in), 8 GND (power) hidden to GND, 9 S0 (in), 10 S1 (in), 11 CLK (in), 12 QD (out), 13 QC (out), 14 QB (out), 15 QA (out), 16 VCC (power) hidden to VCC

## circle
designator *
footprint BNC_RA CON
footprint PCBComponent_1
footprint PCBComponent_1 - duplicate

## Conn Mil PT02A-14-5P
designator P, comment PT02A-14-5P
pins: A, B, C, D, E

## Conn Mil PT02A-14-5P_Solder View
designator P, comment PT02A-14-5P
text: Solder Cup View; A; B; E; C; D

## Conn Mil PT02A-14-12P
designator P, comment PT02A-14-12P
pins: A, B, C, D, E, F, G, H, J, K, L, M

## Conn Mil PT02A-14-12P_Solder View
designator P, comment PT02A-14-12P
text: Solder Cup View; A; H; B; G; J; K; M; L; C; F; E; D

## Conn Mil PT02A-14-12S
designator J, comment PT02A-14-12S
pins: A, B, C, D, E, F, G, H, J, K, L, M

## Conn Mil PT02A-14-12S_Solder View
designator J, comment PT02A-14-12S
text: Solder Cup View; H; A; G; B; M; K; L; F; C; E; D

## Connector MING7
designator P?, comment MING7-CCR
Seacon MING7-CCR Male Molded Receptacle
pins: 1, 2, 3, 4, 5, 6, 7

## Connector Power Barrel
designator J?, comment "Function"
2.5 x 5.5 x 8.9 power Jack; Manufacturer: CUI Inc; Manufacturer Part Number: PJ-002BH-SMT-TR; Gender: Male; Plug/Mating Plug Diameter: 2.5mm ID, 5.5mm OD; Number of Positions/Contacts: 2 Conductors, 3 Contacts; Internal Switch(s): Single Switch, Normally Closed; Shielding: Unshielded; Voltage - Rated: 24VDC; Current Rating: 5A; Supplier 1: Digi-Key; Supplier Part Number 1: CP-002BHPJCT-ND; RoHS: RoHS Compliant; Category: Connectors, Interconnects; Stock: 24218; Pricing: 1=1.89, 10=1.469, 100=1.121 (USD); Connector Type: Jack; Mounting Type: Surface Mount; Termination: Solder; Features: -; Color: Black; Contact Material: Copper Alloy; Contact Material - Plating: Nickel; Housing Color: Black; Housing Material: Thermoplastic; Operating Temperature: -25°C ~ 85°C; ComponentLink1URL: http://www.cui.com/product/resource/digikeypdf/pj-002bh-smt.pdf; ComponentLink1Description: http://www.cui.com/product/resource/digikeypdf/pj-002bh-smt.pdf
footprint PJ-002BH-SMT (2.5 x 5.5 x 8.9 power Jack)
pins: 1, 2, 3, 4, 5 PTH, 6 PTH

## Connector VITA 57 160 Female (cdgh)
designator J?, comment VITA 57  (value not drawn)
Connector VITA 57, 160 Female contacts in 4 row cdgh; Part Number: SAMTEC_ASP-134603-01; Part Description: 160 contacts (4 rows cdgh) Surface Mount Female Connector, VITA 57 (CC-LPC-10); Manufacturer: SAMTEC; Manufacturer Part Number: ASP-134603-01; PressFit: No; Component Kind: Standard; Component Type: Standard; Footprint: SAMTEC_ASP-134603-01; Pin Count: 160; Family: VITA 57; Mounted: Yes; Socket: No; SMD: Yes; Status: None; ComponentHeight: 6.55mm; HelpURL: \\cern.ch\dfs\Applications\Altium\Datasheets\SAMTEC_ASP-134603-01.pdf; Author: CERN DEM JLC; CreateDate: 7/13/2010; LatestRevisionDate: 7/13/2010; Table: SAMTEC
footprint SAMTEC_ASP-134603-01
part A pins: c1 (io), c2 (io), c3 (io), c4 (io), c5 (io), c6 (io), c7 (io), c8 (io), c9 (io), c10 (io), c11 (io), c12 (io), c13 (io), c14 (io), c15 (io), c16 (io), c17 (io), c18 (io), c19 (io), c20 (io), c21 (io), c22 (io), c23 (io), c24 (io), c25 (io), c26 (io), c27 (io), c28 (io), c29 (io), c30 (io), c31 (io), c32 (io), c33 (io), c34 (io), c35 (io), c36 (io), c37 (io), c38 (io), c39 (io), c40 (io)
part B pins: d1 (io), d2 (io), d3 (io), d4 (io), d5 (io), d6 (io), d7 (io), d8 (io), d9 (io), d10 (io), d11 (io), d12 (io), d13 (io), d14 (io), d15 (io), d16 (io), d17 (io), d18 (io), d19 (io), d20 (io), d21 (io), d22 (io), d23 (io), d24 (io), d25 (io), d26 (io), d27 (io), d28 (io), d29 (io), d30 (io), d31 (io), d32 (io), d33 (io), d34 (io), d35 (io), d36 (io), d37 (io), d38 (io), d39 (io), d40 (io)
part C pins: g1 (io), g2 (io), g3 (io), g4 (io), g5 (io), g6 (io), g7 (io), g8 (io), g9 (io), g10 (io), g11 (io), g12 (io), g13 (io), g14 (io), g15 (io), g16 (io), g17 (io), g18 (io), g19 (io), g20 (io), g21 (io), g22 (io), g23 (io), g24 (io), g25 (io), g26 (io), g27 (io), g28 (io), g29 (io), g30 (io), g31 (io), g32 (io), g33 (io), g34 (io), g35 (io), g36 (io), g37 (io), g38 (io), g39 (io), g40 (io)
part D pins: h1 (io), h2 (io), h3 (io), h4 (io), h5 (io), h6 (io), h7 (io), h8 (io), h9 (io), h10 (io), h11 (io), h12 (io), h13 (io), h14 (io), h15 (io), h16 (io), h17 (io), h18 (io), h19 (io), h20 (io), h21 (io), h22 (io), h23 (io), h24 (io), h25 (io), h26 (io), h27 (io), h28 (io), h29 (io), h30 (io), h31 (io), h32 (io), h33 (io), h34 (io), h35 (io), h36 (io), h37 (io), h38 (io), h39 (io), h40 (io)

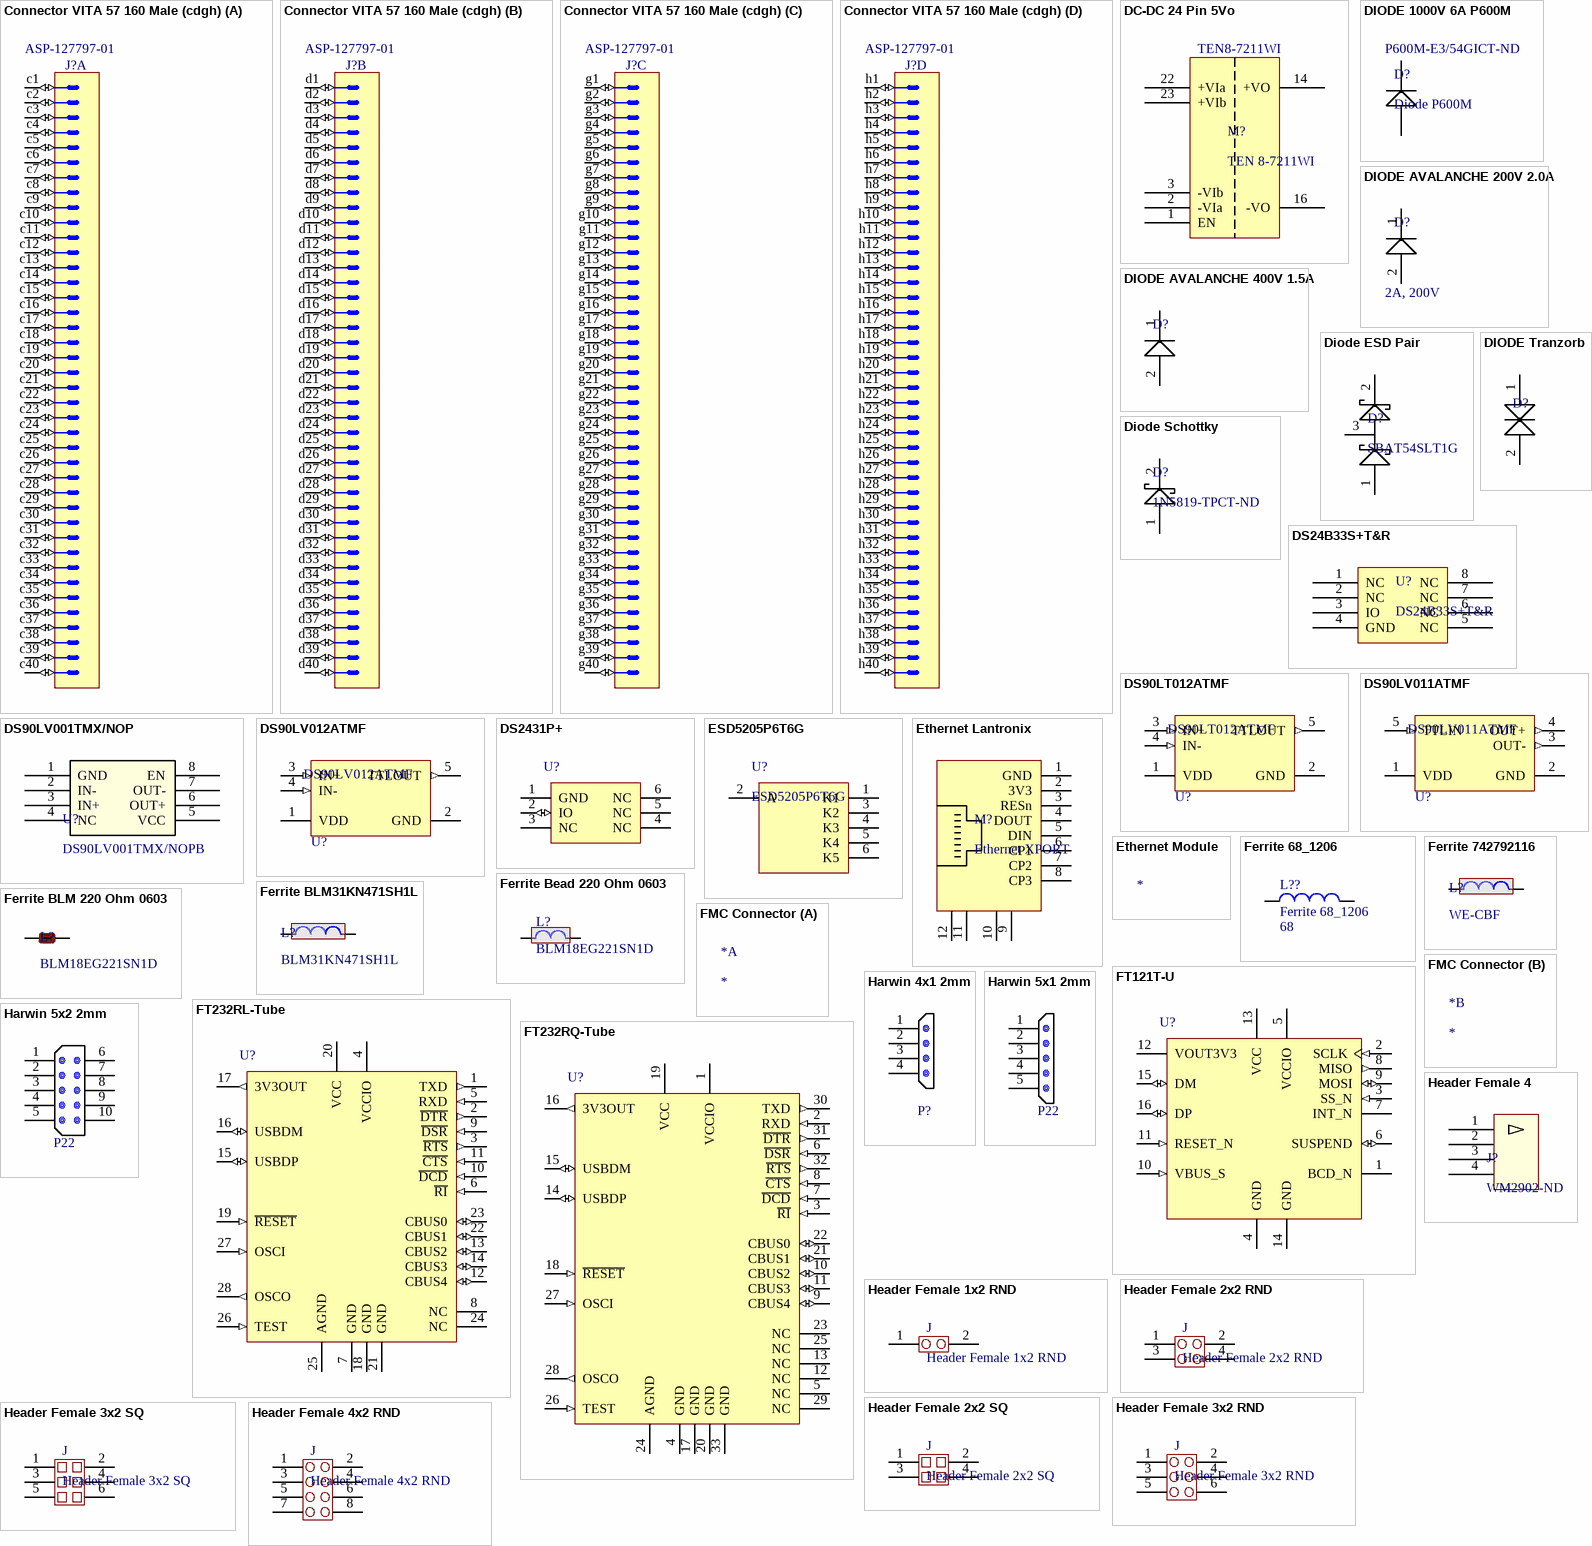
[diagram p13: symbols Connector VITA 57 160 Male (cdgh) to Header Female 4x2 RND]

## Connector VITA 57 160 Male (cdgh)
designator J?  Manufacturer Part Number: ASP-127797-01
Connector VITA 57, 160 Male contacts in 4 row cdgh; Manufacturer: SAMTEC; Product Range: ASP Series; Contact Termination Type: Through Hole; Gender: Header; No. of Contacts: 160; Pitch Spacing: 1.27; No. of Rows: 4; Author: CERN DEM JLC; Supplier 1: Newark; RoHS: YES; Stock 1: 7; Pricing 1: 1=16.98, 10=16.04, 50=14.69, 100=13.33, 250=12.65, 500=12.06, 1000=11.89 (USD); Contact Plating: Gold; Contact Material: Copper Alloy; ComponentLink1URL: http://www.farnell.com/cad/1838624.pdf; ComponentLink1Description: http://www.farnell.com/cad/1838624.pdf; Supplier Part Number 1: 79X1309
footprint SAMTEC_ASP-127797-01 (Connector VITA 57, 160 Male contacts in 4 row cdgh)
part A pins: c1 (io), c2 (io), c3 (io), c4 (io), c5 (io), c6 (io), c7 (io), c8 (io), c9 (io), c10 (io), c11 (io), c12 (io), c13 (io), c14 (io), c15 (io), c16 (io), c17 (io), c18 (io), c19 (io), c20 (io), c21 (io), c22 (io), c23 (io), c24 (io), c25 (io), c26 (io), c27 (io), c28 (io), c29 (io), c30 (io), c31 (io), c32 (io), c33 (io), c34 (io), c35 (io), c36 (io), c37 (io), c38 (io), c39 (io), c40 (io)
part B pins: d1 (io), d2 (io), d3 (io), d4 (io), d5 (io), d6 (io), d7 (io), d8 (io), d9 (io), d10 (io), d11 (io), d12 (io), d13 (io), d14 (io), d15 (io), d16 (io), d17 (io), d18 (io), d19 (io), d20 (io), d21 (io), d22 (io), d23 (io), d24 (io), d25 (io), d26 (io), d27 (io), d28 (io), d29 (io), d30 (io), d31 (io), d32 (io), d33 (io), d34 (io), d35 (io), d36 (io), d37 (io), d38 (io), d39 (io), d40 (io)
part C pins: g1 (io), g2 (io), g3 (io), g4 (io), g5 (io), g6 (io), g7 (io), g8 (io), g9 (io), g10 (io), g11 (io), g12 (io), g13 (io), g14 (io), g15 (io), g16 (io), g17 (io), g18 (io), g19 (io), g20 (io), g21 (io), g22 (io), g23 (io), g24 (io), g25 (io), g26 (io), g27 (io), g28 (io), g29 (io), g30 (io), g31 (io), g32 (io), g33 (io), g34 (io), g35 (io), g36 (io), g37 (io), g38 (io), g39 (io), g40 (io)
part D pins: h1 (io), h2 (io), h3 (io), h4 (io), h5 (io), h6 (io), h7 (io), h8 (io), h9 (io), h10 (io), h11 (io), h12 (io), h13 (io), h14 (io), h15 (io), h16 (io), h17 (io), h18 (io), h19 (io), h20 (io), h21 (io), h22 (io), h23 (io), h24 (io), h25 (io), h26 (io), h27 (io), h28 (io), h29 (io), h30 (io), h31 (io), h32 (io), h33 (io), h34 (io), h35 (io), h36 (io), h37 (io), h38 (io), h39 (io), h40 (io)

## DC-DC 24 Pin 5Vo
designator M?, comment TEN 8-7211WI  Manufacturer Part Number: TEN8-7211WI
Manufacturer: Traco Power; Min Input Voltage (DC): 43V; Max Input Voltage (DC): 160V; Max Output Current: 1.6A; Efficiency: 85%; Number of Outputs: 1; Output Power: 8W; Output Voltage: 5V; Isolation Voltage: 1.5kV; Isolation: Isolated; Nominal Input Voltage: 72V; ComponentLink1Description: Supplier Link; ComponentLink1URL: https://www.digikey.com/product-detail/en/traco-power/TEN-8-7211WI/1951-2576-ND/9383611; ComponentLink2Description: Datasheet; ComponentLink2URL: https://www.tracopower.com/products/ten8wi.pdf; Supplier 1: Digi-Key; Stock 1: 224; Pricing 1: 1 = 47.60000, 10 = 40.93400, 25 = 39.63480, 50 = 37.68560, 100 = 35.08650, 250 = 34.56672, 500 = 31.18800 (USD); RoHS: Yes; Mount: Through Hole; Number of Pins: 9; Weight: 18g; Min Operating Temperature: -40°C; Max Operating Temperature: 85°C; Output Current: 1.6A; Min Input Voltage: 43V; Max Input Voltage: 160V; Nominal Output Voltage: 5V; Max Output Power: 8W; Voltage - Output 1: 5V; Current - Output 1: 1.6A; Length: 32mm; Height: 10.2mm; Width: 20.3mm; Depth: 20.3mm; Radiation Hardening: No; REACH SVHC: No SVHC; Supplier Part Number 1: 1951-2576-ND; ComponentLink3Description: Application Note; ComponentLink3URL: https://assets.tracopower.com/20190902135529/TEN8WI/documents/ten8wi-application.pdf
footprint DC_DC_24DIP_9P__V1 (DC-DC Converter TRACO-RECOM)
pins: 1 EN, 2 -VIa, 3 -VIb, 14 +VO, 16 -VO, 22 +VIa, 23 +VIb

## DIODE 1000V 6A P600M
designator D?, comment Diode P600M  Supplier Part Number 1: P600M-E3/54GICT-ND
DIODE 1000V 6A; Manufacturer: Vishay Semiconductors; Manufacturer Part Number: P600M-E3/54; Forward Voltage: 1V; Max Surge Current: 400A; Recovery Time: 2500ns; Peak Reverse Current: 5uA; Reverse Voltage (DC): 1kV; Reverse Recovery Time: 2.5us; Element Configuration: Single; Polarity: Standard; Capacitance: 150pF; Output Current: 3A; Supplier 1: Digi-Key; Stock 1: 3600; Pricing 1: 1=0.72, 10=0.636, 25=0.5976, 100=0.4879, 250=0.4532 (USD); Mount: Through Hole; Case/Package: P; Number of Pins: 2; Min Operating Temperature: -50°C; Max Operating Temperature: 150°C; Packaging: Tape and Reel; Package Quantity: 1; Forward Current: 6A; Average Rectified Current: 6A; Max Repetitive Reverse Voltage (Vrrm): 1kV; Peak Non-Repetitive Surge Current: 400A; Max Forward Surge Current (Ifsm): 400A; Radiation Hardening: No; REACH SVHC: Unknown; Lead Free: Lead Free; ComponentLink1URL: https://datasheet.ciiva.com/14481/p600a-14481830.pdf; ComponentLink1Description: https://datasheet.ciiva.com/14481/p600a-14481830.pdf; ComponentLink2URL: https://datasheet.ciiva.com/26295/1911696-26295352.pdf; ComponentLink2Description: https://datasheet.ciiva.com/26295/1911696-26295352.pdf; ComponentLink3URL: https://datasheet.ciiva.com/26295/13142-26295066.pdf; ComponentLink3Description: https://datasheet.ciiva.com/26295/13142-26295066.pdf; ComponentLink4URL: https://datasheet.ciiva.com/8282/p600a-8282027.pdf; ComponentLink4Description: https://datasheet.ciiva.com/8282/p600a-8282027.pdf; ComponentLink5URL: https://datasheet.ciiva.com/8285/p600a-8285851.pdf; ComponentLink5Description: https://datasheet.ciiva.com/8285/p600a-8285851.pdf; ComponentLink6URL: https://datasheet.ciiva.com/13949/p600a-13949630.pdf; ComponentLink6Description: https://datasheet.ciiva.com/13949/p600a-13949630.pdf; ComponentLink7URL: https://datasheet.ciiva.com/13949/p600a-13949631.pdf; ComponentLink7Description: https://datasheet.ciiva.com/13949/p600a-13949631.pdf
pins: 1, 2

## DIODE AVALANCHE 200V 2.0A
designator D?, comment Ratings: 2A, 200V  (hidden comment: BYG22DHE3_A/H)
Diode Avalanche 200V 2A Surface Mount DO-214AC (SMA); Manufacturer: Vishay Semiconductors; ComponentLink1Description: Datasheet; ComponentLink1URL: http://www.vishay.com/docs/88959/byg22a.pdf; ComponentLink2Description: Supplier Link; ComponentLink2URL: https://www.digikey.com/products/en?keywords=BYG22DHE3_A%2FHGICT-ND; Supplier 1: Digi-Key; Stock 1: 1303; Pricing 1: 1=0.50000, 10=0.42500, 100=0.31720, 500=0.24926 (USD); RoHS: No; ComponentLink3URL: http://www.vishay.com/docs/88959/byg22a.pdf?src-supplier=Digi-Key; ComponentLink3Description: http://www.vishay.com/docs/88959/byg22a.pdf?src-supplier=Digi-Key; Supplier Part Number 1: BYG22DHE3_A/HGICT-ND; Manufacturer Part Number: BYG22DHE3_A/H
footprint DO-214AC
pins: 1, 2

## DIODE AVALANCHE 400V 1.5A
designator D?, comment BYG20G-E3/GICT-ND  (value not drawn)
DIODE AVALANCHE 400V 1.5A; Manufacturer: Vishay Semiconductor Diodes Division; Manufacturer Part Number: BYG20G-E3/TR; Voltage - Forward (Vf) (Max) @ If: 1.4V @ 1.5A; Speed: Fast Recovery =< 500ns, > 200mA (Io); Reverse Recovery Time (trr): 75ns; Current - Reverse Leakage @ Vr: 1µA @ 400V; Supplier 1: Digi-Key; RoHS: RoHS Compliant; Category: Discrete Semiconductor Products; Stock 1: 12803; Pricing 1: 1=0.57, 10=0.399, 25=0.3276, 100=0.2618, 250=0.19076, 500=0.1549 (USD); Packaging: Cut Tape (CT); Diode Type: Avalanche; Voltage - DC Reverse (Vr) (Max): 400V; Current - Average Rectified (Io): 1.5A; Capacitance @ Vr, F: -; Mounting Type: Surface Mount; Package / Case: DO-214AC, SMA; Supplier Device Package: DO-214AC (SMA); Operating Temperature - Junction: -55°C ~ 150°C; ComponentLink1URL: http://www.vishay.com/docs/88958/byg20d.pdf; ComponentLink1Description: http://www.vishay.com/docs/88958/byg20d.pdf; Supplier Part Number 1: BYG20G-E3/GICT-ND
footprint DO-214AC
pins: 1, 2

## Diode ESD Pair
designator D?, comment SBAT54SLT1G
DIODE ARRAY SCHOTTKY 30V SOT23-3; Manufacturer: ON Semiconductor; Max Surge Current: 600mA; Forward Voltage: 800mV; Recovery Time: 5ns; Forward Current: 200mA; Max Reverse Leakage Current: 2uA; Power Dissipation: 225mW; Element Configuration: Dual; ComponentLink1Description: Supplier Link; ComponentLink1URL: https://www.digikey.com/products/en?keywords=SBAT54SLT1GOSCT-ND; ComponentLink2Description: Datasheet; ComponentLink2URL: http://www.onsemi.com/pub/Collateral/BAT54SLT1-D.PDF; Supplier 1: Digi-Key; Manufacturer Part Number: SBAT54SLT1G; Stock 1: 119322; Pricing 1: 1 = 0.35000, 10 = 0.28800, 100 = 0.19580, 500 = 0.14684, 1000 = 0.11012 (USD); RoHS: Yes; Case/Package: SOT-23-3; Number of Pins: 3; Min Operating Temperature: -55°C; Max Operating Temperature: 150°C; Package Quantity: 3000; Packaging: Tape and Reel; Average Rectified Current: 200mA; Reverse Recovery Time: 5ns; Peak Non-Repetitive Surge Current: 600mA; Max Repetitive Reverse Voltage (Vrrm): 30V; Peak Reverse Current: 2uA; Max Reverse Voltage (DC): 30V; Length: 3.04mm; Height: 1.01mm; Width: 1.4mm; Radiation Hardening: No; Lead Free: Lead Free; Halogen Free: Halogen Free; Supplier Part Number 1: SBAT54SLT1GOSCT-ND
footprint SOT-23 (SOT23, 3-Leads, Body 2.9x1.3mm, Pitch 0.95mm, 0.7 x 0.9)
pins: 1, 2, 3

## Diode Schottky
designator D?, comment 1N5819-TPCT-ND
Manufacturer: MCC; Forward Voltage: 600mV; Peak Reverse Current: 1mA; Max Surge Current: 25A; Forward Current: 1A; Reverse Voltage (DC): 40V; Reverse Recovery Time: 10ns; Element Configuration: Single; Polarity: Standard; Capacitance: 110pF; Supplier 1: Digi-Key; Manufacturer Part Number: 1N5819-TP; Stock 1: 13250; Pricing 1: 1=0.41, 10=0.292, 25=0.2272, 100=0.172, 250=0.1217, 500=0.0973, 1000=0.0746, 2500=0.0649 (USD); Mount: Through Hole; Number of Pins: 2; Min Operating Temperature: -55°C; Max Operating Temperature: 125°C; Package Quantity: 5000; Packaging: Tape and Reel; Max Reverse Leakage Current: 1mA; Average Rectified Current: 1A; Max Repetitive Reverse Voltage (Vrrm): 40V; Peak Non-Repetitive Surge Current: 25A; Max Forward Surge Current (Ifsm): 25A; Voltage Rating (DC): 40V; Current Rating: 1A; Output Current: 1A; Diameter: 2.7mm; Length: 5.2mm; Radiation Hardening: No; Lead Free: Lead Free; ComponentLink1URL: https://datasheet.ciiva.com/16818/1n5817-1n5819do-41-16818417.pdf; ComponentLink1Description: https://datasheet.ciiva.com/16818/1n5817-1n5819do-41-16818417.pdf; ComponentLink2URL: https://datasheet.ciiva.com/912/1n5817-1n5819do-41-912102.pdf; ComponentLink2Description: https://datasheet.ciiva.com/912/1n5817-1n5819do-41-912102.pdf; ComponentLink3URL: https://datasheet.ciiva.com/14558/70055533-14558006.pdf; ComponentLink3Description: https://datasheet.ciiva.com/14558/70055533-14558006.pdf; ComponentLink4URL: https://datasheet.ciiva.com/15144/getdatasheetpartid-57100-15144285.pdf; ComponentLink4Description: https://datasheet.ciiva.com/15144/getdatasheetpartid-57100-15144285.pdf; Supplier Part Number 1: 1N5819-TPCT-ND
pins: 1, 2

## DIODE Tranzorb
designator D?, comment SMCJ130CA-FDICT-ND  (value not drawn)
DIODE Tranzorb
pins: 1, 2

## DS24B33S+T&R
designator U?
EEPROM Memory IC 4Kb (256 x 16) 1-Wire®  2µs 8-SO; Manufacturer: Maxim; Interface: Serial; Min Supply Voltage: 2.8V; Max Supply Voltage: 5.25V; ComponentLink1Description: Digi-Key Link; ComponentLink1URL: https://www.digikey.com/product-detail/en/maxim-integrated/DS24B33S-T-R/DS24B33S-T-RCT-ND/3877655; ComponentLink2Description: Datasheet; ComponentLink2URL: https://datasheets.maximintegrated.com/en/ds/DS24B33.pdf; Supplier 1: Digi-Key; Manufacturer Part Number: DS24B33S+T&R; Stock 1: 50740; Pricing 1: 1 = 3.56000, 10 = 3.20200, 25 = 3.15120, 50 = 3.14260, 100 = 2.80810, 250 = 2.71688, 500 = 2.70674, 1000 = 2.52088 (USD); RoHS: Yes; Case/Package: SOIC; Number of Pins: 8; Contact Plating: Tin; Min Operating Temperature: -40°C; Max Operating Temperature: 85°C; Packaging: Tape and Reel; Package Quantity: 1; Density: 4Kb; Memory Type: EEPROM; Memory Size: 4Kb; Radiation Hardening: No; REACH SVHC: Unknown; ComponentLink3URL: http://www.mouser.com/ds/2/256/DS24B33-87042.pdf?src-supplier=Mouser; ComponentLink3Description: http://www.mouser.com/ds/2/256/DS24B33-87042.pdf?src-supplier=Mouser; ComponentLink4URL: http://www.farnell.com/datasheets/2001215.pdf?src-supplier=Farnell; ComponentLink4Description: http://www.farnell.com/datasheets/2001215.pdf?src-supplier=Farnell; ComponentLink5URL: https://produktinfo.conrad.com/datenblaetter/1100000-1199999/001121821-da-01-en-IC_EEPROM_4KBIT_DS24B33S_T_R_SOIC_8_MAX.pdf?src-supplier=Conrad; ComponentLink5Description: https://produktinfo.conrad.com/datenblaetter/1100000-1199999/001121821-da-01-en-IC_EEPROM_4KBIT_DS24B33S_T_R_SOIC_8_MAX.pdf?src-supplier=Conrad; ComponentLink6URL: http://datasheets.maximintegrated.com/en/ds/DS24B33.pdf?src-supplier=Avnet; ComponentLink6Description: http://datasheets.maximintegrated.com/en/ds/DS24B33.pdf?src-supplier=Avnet; ComponentLink7URL: http://datasheets.maximintegrated.com/en/ds/DS24B33.pdf?src-supplier=Avnet+Europe; ComponentLink7Description: http://datasheets.maximintegrated.com/en/ds/DS24B33.pdf?src-supplier=Avnet+Europe; ComponentLink8URL: http://datasheets.maximintegrated.com/en/ds/DS24B33.pdf?src-supplier=Digi-Key; ComponentLink8Description: http://datasheets.maximintegrated.com/en/ds/DS24B33.pdf?src-supplier=Digi-Key; ComponentLink9URL: https://datasheets.maximintegrated.com/en/ds/DS24B33.pdf?src-supplier=Digi-Key; ComponentLink9Description: https://datasheets.maximintegrated.com/en/ds/DS24B33.pdf?src-supplier=Digi-Key; ComponentLink10URL: http://www.farnell.com/datasheets/2001215.pdf?src-supplier=Element14; ComponentLink10Description: http://www.farnell.com/datasheets/2001215.pdf?src-supplier=Element14; ComponentLink11URL: http://www.maximintegrated.com/DS24B33.pdf?src-supplier=Avnet+Asia; ComponentLink11Description: http://www.maximintegrated.com/DS24B33.pdf?src-supplier=Avnet+Asia; Supplier Part Number 1: DS24B33S+T&RCT-ND
footprint SOIC-08 (SOIC, 8-Leads, Body 5x4mm, Pitch 1.27mm, IPC Low Density)
pins: 1 NC, 2 NC, 3 IO, 4 GND, 5 NC, 6 NC, 7 NC, 8 NC

## DS90LT012ATMF
designator U?
IC RCVR LVDS DIFF RTERM SOT23-5; Manufacturer: Texas Instruments; Manufacturer Part Number: DS90LT012ATMF/NOPB; Number of Drivers/Receivers: 0/1; Data Rate: 400Mbps; Voltage - Supply: 3 V ~ 3.6 V; Supplier 1: Digi-Key; RoHS: RoHS Compliant; Category: Integrated Circuits (ICs); Stock 1: 3971; Pricing 1: 1=1.5, 10=1.341, 100=1.0452, 500=0.86436, 1000=0.55125 (USD); Packaging: Cut Tape (CT); Type: Receiver; Protocol: LVDS; Duplex: -; Receiver Hysteresis: -; Operating Temperature: -40°C ~ 85°C; Mounting Type: Surface Mount; Package / Case: SC-74A, SOT-753; Supplier Device Package: SOT-23-5; ComponentLink1URL: http://www.ti.com/lit/ds/symlink/ds90lt012a.pdf; ComponentLink1Description: http://www.ti.com/lit/ds/symlink/ds90lt012a.pdf; Supplier Part Number 1: DS90LT012ATMF/NOPBCT-ND
footprint MF05A_N (SOT23, 5-Leads, Body 2.9x1.6mm, Pitch 0.95mm, Lead Span 2.8mm, IPC Medium Density)
footprint MF05A_L (SOT23, 5-Leads, Body 2.9x1.6mm, Pitch 0.95mm, Lead Span 2.8mm, IPC High Density)
footprint MF05A_M (SOT23, 5-Leads, Body 2.9x1.6mm, Pitch 0.95mm, Lead Span 2.8mm, IPC Low Density)
pins: 1 VDD (power), 2 GND (power), 3 IN+ (in), 4 IN- (in), 5 TTLOUT (out)

## DS90LV001TMX/NOP
designator U?, comment DS90LV001TMX/NOPB
No Description Available; Manufacturer: TI National Semiconductor; Operating Supply Voltage: 3.3V; Number of Elements: 1; Propagation Delay: 2ns; Max Power Dissipation: 726mW; Max Supply Voltage: 3.6V; Min Supply Voltage: 3V; Operating Supply Current: 70mA; Data Rate: 800Mbps; Power Consumption: 155W; Max Output Voltage: 450mV; Max Input Current: 10uA; Logic Function: Buffer; Max Input Voltage: 100mV; Min Input Voltage: -100mV; Supplier 1: Digi-Key; Manufacturer Part Number: DS90LV001TMX/NOPB; Stock 1: 12620; Pricing 1: 1 = 2.03000, 10 = 1.82600, 100 = 1.46770, 500 = 1.20588, 1000 = 0.99915 (USD); RoHS: Yes; Mount: Surface Mount; Case/Package: SOIC; Number of Pins: 8; Weight: 0.005044oz; Contact Plating: Tin; Min Operating Temperature: -40°C; Max Operating Temperature: 85°C; Package Quantity: 2500; Number of Receivers: 1; Packaging: Tape and Reel; Number of Drivers: 1; Turn-On Delay Time: 2ns; Power Dissipation: 726mW; Number of Channels: 1; Length: 4.9mm; Height: 1.45mm; Width: 3.9mm; Radiation Hardening: No; Lead Free: Lead Free; Supplier Part Number 1: DS90LV001TMX/NOPBCT-ND; ComponentLink1Description: Supplier Link; ComponentLink1URL: https://www.digikey.com/products/en?keywords=DS90LV001TMX%2FNOPBCT-ND; ComponentLink2Description: Datasheet; ComponentLink2URL: http://www.ti.com/general/docs/suppproductinfo.tsp?distId=10&gotoUrl=http%3A%2F%2Fwww.ti.com%2Flit%2Fgpn%2Fds90lv001
footprint SOIC-08 (SOIC, 8-Leads, Body 5x4mm, Pitch 1.27mm, IPC Low Density)
pins: 1 GND (power), 2 IN-, 3 IN+, 4 NC, 5 VCC (power), 6 OUT+, 7 OUT-, 8 EN